# Altium schematic symbol library SLW-121586-5A-D.SchLib: 1 symbol
Pins are listed as number, name and electrical type; pins without a type are passive.

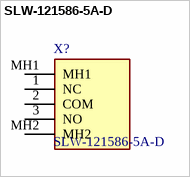
[diagram p0: symbol SLW-121586-5A-D]

## SLW-121586-5A-D
designator X?
Slide Switches 12.1 x 5.8 x 6 mm, 5 mm Raised Slide Actuator, Vertical, Through Hole; Manufacturer_Name: CUI Devices; Geometry.Height: 11.2mm; Mouser Part Number: 179-SLW-121586-5A-D; Mouser Price/Stock: https://www.mouser.co.uk/ProductDetail/CUI-Devices/SLW-121586-5A-D?qs=1Kr7Jg1SGW%252BUgUB4TCZoyg%3D%3D; Manufacturer_Part_Number: SLW-121586-5A-D; Datasheet Link: https://www.cuidevices.com/product/resource/slw-121586-5a-d.pdf
footprint SLW1215865AD
pins: 1 NC, 2 COM, 3 NO, MH1, MH2